# EAGLE library part M20-8760842P (library SamacSys_Parts)
Headers & Wire Housings 08+08 DIL VERTICAL SMT HEADER GOLD+TIN Source: Datasheet <https://cdn.harwin.com/pdfs/M20-876P.pdf>
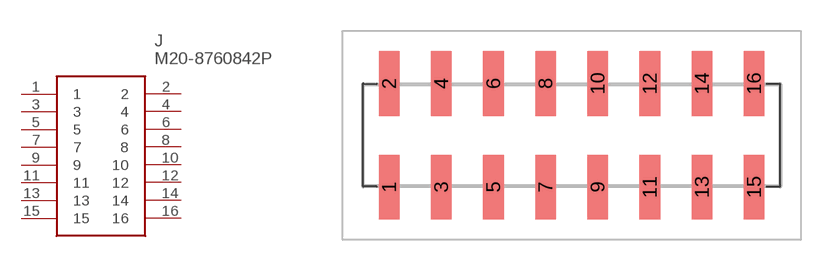
[diagram p4: symbol with the pads of M208760842P; footprint M208760842P]

Designator prefix J

## M20-8760842P (DESCRIPTION: Headers & Wire Housings 08+08 DIL VERTICAL SMT HEADER GOLD+TIN; HEIGHT: 10mm; MANUFACTURER_NAME: Harwin; MANUFACTURER_PART_NUMBER: M20-8760842P; MOUSER_PART_NUMBER: 855-M20-8760842P; MOUSER_PRICE-STOCK: https://www.mouser.co.uk/ProductDetail/Harwin/M20-8760842P?qs=WS5Jv%252B%252Bx1qXNtQgChMtRWw%3D%3D)  [M208760842P]
1  1
2  2
3  3
4  4
5  5
6  6
7  7
8  8
9  9
10  10
11  11
12  12
13  13
14  14
15  15
16  16

## Footprint M208760842P (pad centres in mm)
M20-8760842P
smd 1 x 3.15: 1 -8.89,-2.525; 2 -8.89,2.525; 3 -6.35,-2.525; 4 -6.35,2.525; 5 -3.81,-2.525; 6 -3.81,2.525; 7 -1.27,-2.525; 8 -1.27,2.525; 9 1.27,-2.525; 10 1.27,2.525; 11 3.81,-2.525; 12 3.81,2.525; 13 6.35,-2.525; 14 6.35,2.525; 15 8.89,-2.525; 16 8.89,2.525